# Altium footprint library SM_L_6.4MMx6MMx3MM.PcbLib: 1 footprints
Each footprint in its own frame and in the unit in brackets; x right, y up, seen from the top. Pads: shape width x height; smd on the part's side, far side on the other; paste and mask are expansions set on the pad; w line width, h text height; cw(c..) or ccw(c..) is an arc to the next point about the centre after c.
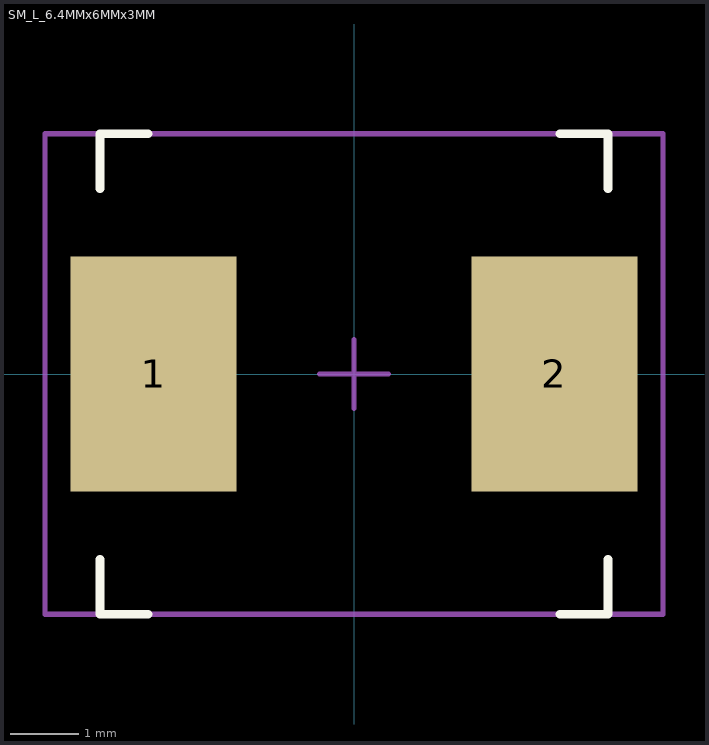
[diagram p0: the footprint, top view; thin cyan lines are the x and y axes]

## SM_L_6.4MMx6MMx3MM [mil] "6.4mm x 6mm x 3mm"
height 118.11
pads (2):
  rect 95x135 smd: 1(-115,0) 2(115,0)
Top Overlay:
  lines w5: -145.67,-106.3 -145.67,-137.8 -118.11,-137.8 ; -145.67,106.3 -145.67,137.8 -118.11,137.8 ; 118.11,-137.8 145.67,-137.8 145.67,-106.3 ; 118.11,137.8 145.67,137.8 145.67,106.3
Mechanical 15:
  lines w3: -19.68,0 19.69,0 ; 0,-19.68 0,19.69 ; -177.17,-137.8 177.17,-137.8 177.17,137.8 -177.17,137.8 -177.17,-137.8
3D body: height 118.11, standoff 0, extent -133.86,-125.98 133.86,125.98